# EAGLE library part MMA8452Q (library NITWHIPS)
Three axis I2C accelerometer.
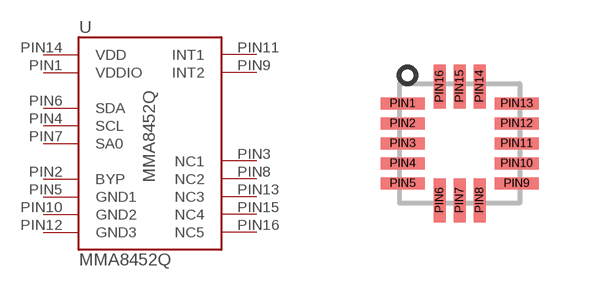
[diagram p2: symbol with the pads of QFN-16; footprint QFN-16]

Designator prefix -

## MMA8452Q  [QFN-16]
PIN1  VDDIO
PIN2  BYP
PIN3  NC1
PIN4  SCL
PIN5  GND1
PIN6  SDA
PIN7  SA0
PIN8  NC2
PIN9  INT2
PIN10  GND2
PIN11  INT1
PIN12  GND3
PIN13  NC3
PIN14  VDD
PIN15  NC4
PIN16  NC5

## Footprint QFN-16 (pad centres in mm)
QFN-16 package
smd 1.1 x 0.3: PIN1 -1.425,1; PIN2 -1.425,0.5; PIN3 -1.425,0; PIN4 -1.425,-0.5; PIN5 -1.425,-1; PIN9 1.425,-1; PIN10 1.425,-0.5; PIN11 1.425,0; PIN12 1.425,0.5; PIN13 1.425,1
smd 0.3 x 1.1: PIN6 -0.5,-1.425; PIN7 0,-1.425; PIN8 0.5,-1.425; PIN14 0.5,1.425; PIN15 0,1.425; PIN16 -0.5,1.425